# Altium schematic symbol library Mp3202.SchLib: 1 symbol
Pins are listed as number, name and electrical type; pins without a type are passive.

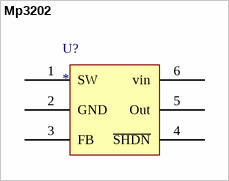
[diagram p0: symbol Mp3202]

## Mp3202
designator U?
pins: 1 SW, 2 GND, 3 FB, 4 ~{SHDN}, 5 Out, 6 vin